# Altium footprint library SOP64P810X120-44N.PcbLib: 1 footprints
Each footprint in its own frame and in the unit in brackets; x right, y up, seen from the top. Pads: shape width x height; smd on the part's side, far side on the other; paste and mask are expansions set on the pad; w line width, h text height; cw(c..) or ccw(c..) is an arc to the next point about the centre after c.
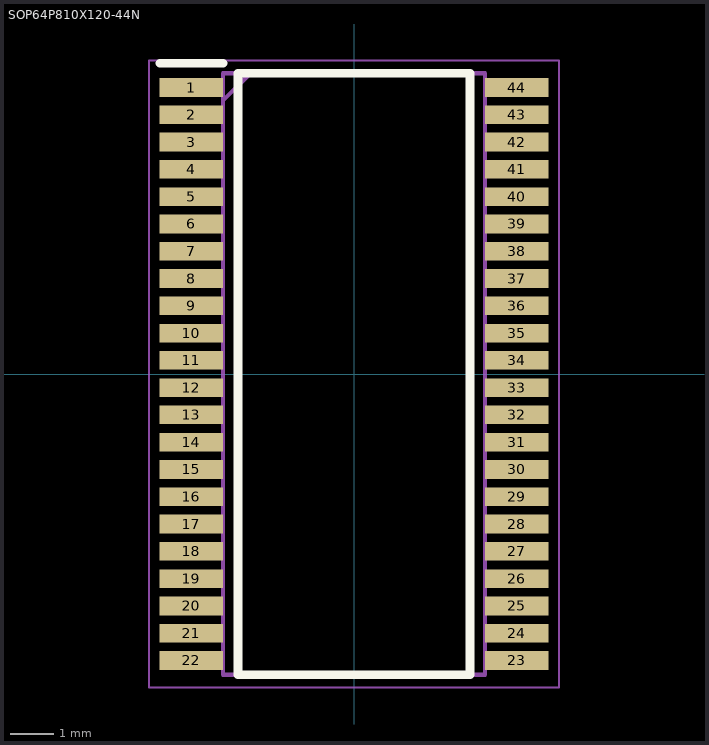
[diagram p0: the footprint, top view; thin cyan lines are the x and y axes]

## SOP64P810X120-44N [mm]
pads (44):
  rect 1.475x0.435 smd: 1(-3.788,6.668) 2(-3.788,6.032) 3(-3.788,5.398) 4(-3.788,4.762) 5(-3.788,4.128) 6(-3.788,3.492) 7(-3.788,2.858) 8(-3.788,2.222) 9(-3.788,1.588) 10(-3.788,0.952) 11(-3.788,0.318) 12(-3.788,-0.318) 13(-3.788,-0.952) 14(-3.788,-1.588) 15(-3.788,-2.222) 16(-3.788,-2.858) 17(-3.788,-3.492) 18(-3.788,-4.128) 19(-3.788,-4.762) 20(-3.788,-5.398) 21(-3.788,-6.032) 22(-3.788,-6.668) 23(3.788,-6.668) 24(3.788,-6.032) 25(3.788,-5.398) 26(3.788,-4.762) 27(3.788,-4.128) 28(3.788,-3.492) 29(3.788,-2.858) 30(3.788,-2.222) 31(3.788,-1.588) 32(3.788,-0.952) 33(3.788,-0.318) 34(3.788,0.318) 35(3.788,0.952) 36(3.788,1.588) 37(3.788,2.222) 38(3.788,2.858) 39(3.788,3.492) 40(3.788,4.128) 41(3.788,4.762) 42(3.788,5.398) 43(3.788,6.032) 44(3.788,6.668)
Top Overlay:
  lines w0.2: -4.525,7.235 -3.05,7.235 ; -2.7,-7 2.7,-7 2.7,7 -2.7,7 -2.7,-7
Mechanical 15:
  lines w0.1: -3.05,6.365 -2.415,7 ; -3.05,-7 3.05,-7 3.05,7 -3.05,7 -3.05,-7
Mechanical 20:
  lines w0.05: -4.775,-7.3 4.775,-7.3 4.775,7.3 -4.775,7.3 -4.775,-7.3